# Altium footprint library Own_lib.PcbLib: 62 footprints (part 3 of 4)
Each footprint in its own frame and in the unit in brackets; x right, y up, seen from the top. Pads: shape width x height; smd on the part's side, far side on the other; paste and mask are expansions set on the pad; w line width, h text height; cw(c..) or ccw(c..) is an arc to the next point about the centre after c.
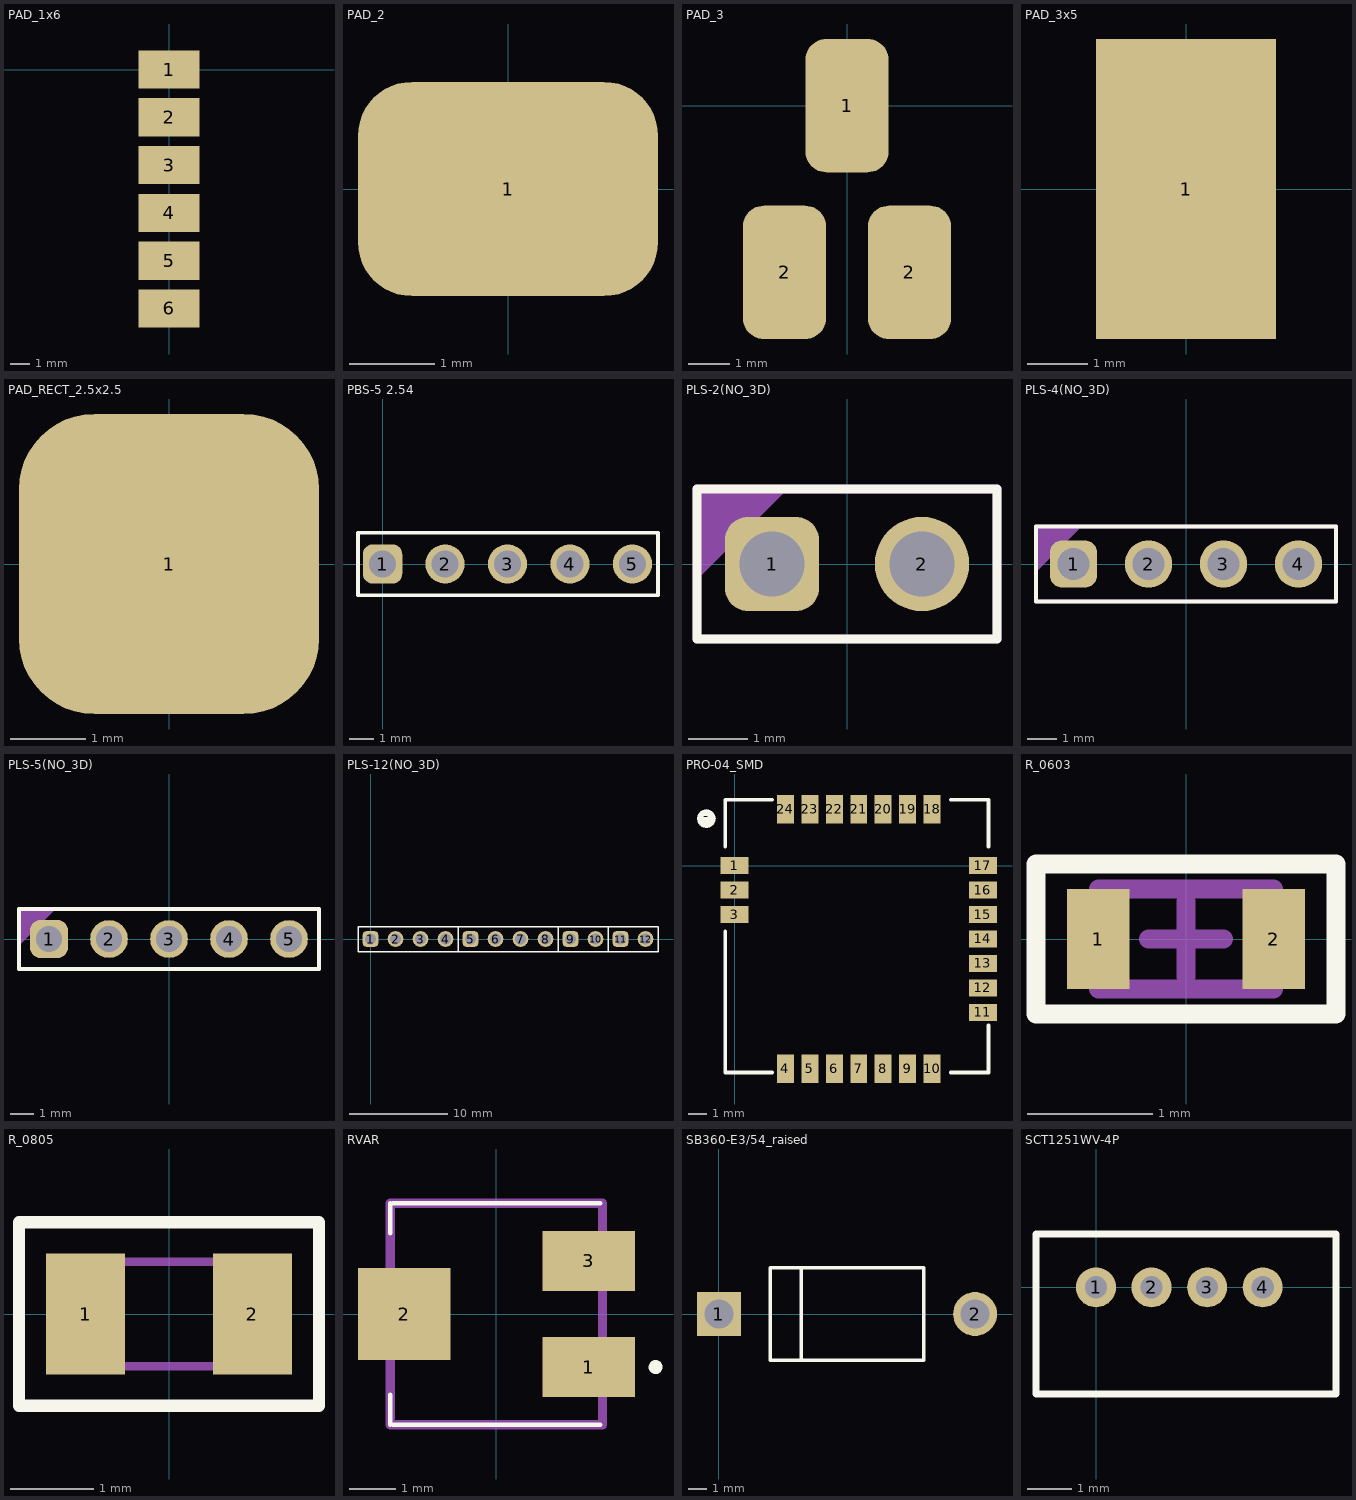
[diagram p2: the footprints below, top view; thin cyan lines are the x and y axes]

## PAD_1x6 [mm]
pads (6):
  rect 3.2x2 smd paste+0 mask+0.102: 1(0,0) 2(0,-2.5) 3(0,-5) 4(0,-7.5) 5(0,-10) 6(0,-12.5)

## PAD_2 [mm]
pads (1):
  rrect50% 3.5x2.5 smd paste+0 mask+0.102: 1(0,0)

## PAD_3 [mm]
pads (3):
  rrect50% 2x3.2 smd paste+0 mask+0.102: 1(0,0) 2(-1.5,-4) 2(1.5,-4)

## PAD_3x5 [mm]
pads (1):
  rect 3x5 smd paste+0 mask+0.102: 1(0,0)

## PAD_RECT_2.5x2.5 [mm]
pads (1):
  rrect50% 4x4 smd paste+0 mask+0.102: 1(0,0)

## PBS-5 2.54 [mm]
pads (5):
  rrect50% 1.6x1.6 hole 1.1: 1(0,0)
  round 1.6 hole 1.1: 2(2.54,0) 3(5.08,0) 4(7.62,0) 5(10.16,0)
Top Overlay:
  lines w0.15: -1,-1.27 -1,1.27 11.2,1.27 11.2,-1.27 -1,-1.27
3D body: height 4.3, standoff 0, extent -0.999,-1.269 11.2,1.269

## PLS-2(NO_3D) [mm]
pads (2):
  rrect50% 1.6x1.6 hole 1.1: 1(-1.27,0)
  round 1.6 hole 1.1: 2(1.27,0)
Top Overlay:
  lines w0.15: -2.54,-1.27 2.54,-1.27 2.54,1.27 -2.54,1.27 -2.54,-1.27
Mechanical 29:
  region: -2.54,1.27 -1.016,1.27 -2.54,-0.254
  lines w0.15: -2.54,-1.27 -2.54,1.27 2.54,1.27 2.54,-1.27 -2.54,-1.27
  text ".Designator" at -1.5,-0.8 h1

## PLS-4(NO_3D) [mm]
pads (4):
  rrect50% 1.6x1.6 hole 1.1: 1(-3.81,0)
  round 1.6 hole 1.1: 2(-1.27,0) 3(1.27,0) 4(3.81,0)
Top Overlay:
  lines w0.15: -5.08,-1.27 5.08,-1.27 5.08,1.27 -5.08,1.27 -5.08,-1.27
Mechanical 29:
  region: -5.08,1.27 -3.556,1.27 -5.08,-0.254
  lines w0.15: -5.08,-1.27 -5.08,1.27 5.08,1.27 5.08,-1.27 -5.08,-1.27
  text ".Designator" at -3.5,-0.8 h1

## PLS-5(NO_3D) [mm]
pads (5):
  rrect50% 1.6x1.6 hole 1.1: 1(-5.08,0)
  round 1.6 hole 1.1: 2(-2.54,0) 3(0,0) 4(2.54,0) 5(5.08,0)
Top Overlay:
  lines w0.15: -6.35,-1.27 6.35,-1.27 6.35,1.27 -6.35,1.27 -6.35,-1.27
Mechanical 29:
  region: -6.35,1.27 -4.826,1.27 -6.35,-0.254
  lines w0.15: -6.35,-1.27 -6.35,1.27 6.35,1.27 6.35,-1.27 -6.35,-1.27
  text ".Designator" at -3.5,-0.3 h1

## PLS-12(NO_3D) [mm]
pads (12):
  rrect50% 1.6x1.6 hole 1.1: 1(0,0) 5(10.16,0) 9(20.32,0) 11(25.4,0)
  round 1.6 hole 1.1: 2(2.54,0) 3(5.08,0) 4(7.62,0) 6(12.7,0) 7(15.24,0) 8(17.78,0) 10(22.86,0) 12(27.94,0)
Top Overlay:
  lines w0.15: 8.89,-1.27 8.89,1.27 ; 19.05,-1.27 19.05,1.27 ; 24.13,-1.27 24.13,1.27 ; -1.27,-1.27 29.21,-1.27 29.21,1.27 -1.27,1.27 -1.27,-1.27

## PRO-04_SMD [mm]
pads (25):
  rect 1.5x0.9 smd: 1(0,0) 2(0,-1.3) 3(0,-2.6) 11(13.2,-7.8) 12(13.2,-6.5) 13(13.2,-5.2) 14(13.2,-3.9) 15(13.2,-2.6) 16(13.2,-1.3) 17(13.2,0)
  rect 0.9x1.5 smd: 4(2.7,-10.8) 5(4,-10.8) 6(5.3,-10.8) 7(6.6,-10.8) 8(7.9,-10.8) 9(9.2,-10.8) 10(10.5,-10.8) 18(10.5,3) 19(9.2,3) 20(7.9,3) 21(6.6,3) 22(5.3,3) 23(4,3) 24(2.7,3)
  round 1 on Top Overlay: -(-1.5,2.5)
Top Overlay:
  lines w0.2: -0.5,-3.5 -0.5,-11 2,-11 ; -0.5,1 -0.5,3.5 2,3.5 ; 11.5,-11 13.5,-11 13.5,-8.5 ; 11.5,3.5 13.5,3.5 13.5,1
3D body: height 1.8, standoff 0, extent -0.5,-11 13.5,3.5

## R_0603 [mm]
pads (2):
  rect 0.5x0.8 smd: 1(-0.7,0) 2(0.7,0)
Top Overlay:
  lines w0.15: -1.2,-0.6 -1.2,0.6 -1,0.6 1,0.6 1.2,0.6 1.2,-0.6 1,-0.6 -1,-0.6 -1.2,-0.6
Top 3D Body:
  lines w0.15: -0.3,0 0.3,0 ; 0,-0.3 0,0.3 ; -0.7,-0.4 -0.7,0.4 0.7,0.4 0.7,-0.4 -0.7,-0.4
3D body: height 0.45, standoff 0, extent -0.5,-0.41 0.5,0.41
3D body: height 0.45, standoff 0, extent 0.5,-0.41 0.7,0.41
3D body: height 0.45, standoff 0, extent -0.7,-0.41 -0.5,0.41

## R_0805 [mm]
pads (2):
  rect 0.95x1.45 smd: 1(-1,0) 2(1,0)
Top Overlay:
  lines w0.15: -1.8,-1.1 -1.8,1.1 1.8,1.1 1.8,-1.1 -1.8,-1.1
Mechanical 13:
  lines w0.1: -1.025,-0.625 -1.025,0.625 1.025,0.625 1.025,-0.625 -1.025,-0.625
3D body "CRCW08051R20JNEA.stp": height 0.5, standoff 0, extent -1.025,-0.625 1.025,0.625

## RVAR [mm]
pads (3):
  rect 2x1.3 smd: 1(2,-1.15) 3(2,1.15)
  rect 2x2 smd: 2(-2,0)
Top Overlay:
  lines w0.1: -2.3,-2.4 -2.3,-1.75 -2.3,-2.4 ; -2.3,1.75 -2.3,2.4 -2.3,1.75 ; -2.25,-2.4 2.25,-2.4 -2.25,-2.4 ; -2.25,2.4 2.25,2.4 -2.25,2.4
  lines w0.2: 3.4,-1.15 ccw(c3.45,-1.135) 3.5,-1.15 ; 3.4,-1.15 cw(c3.45,-1.15) 3.5,-1.15 ; 3.4,-1.15 ccw(c3.45,-1.15) 3.5,-1.15
Mechanical 13:
  lines w0.2: -2.3,-2.4 -2.3,2.4 2.3,2.4 2.3,-2.4 -2.3,-2.4
3D body "3224J-1-101E.stp": height 3.81, standoff 0, extent -2.8,-2.4 2.87,2.4

## SB360-E3/54_raised [mm]
pads (2):
  rect 2.4x2.4 hole 1.6: 1(0,0)
  round 2.4 hole 1.6: 2(14,0)
Top Overlay:
  lines w0.2: 4.5,-2.525 4.5,2.525 ; 2.8,-2.525 2.8,2.525 11.2,2.525 11.2,-2.525 2.8,-2.525
3D body: height 8.9, standoff 3.9, extent 2.8,-2.5 11.2,2.5
3D body: height 5.3, standoff 0, extent -0.8,-0.8 0.8,0.8
3D body: height 5.3, standoff 0, extent 13.2,-0.8 14.8,0.8
3D body: height 6.1, standoff 4.5, extent -0.8,-0.8 2.8,0.8
3D body: height 6.1, standoff 4.5, extent 11.2,-0.8 14.8,0.8

## SCT1251WV-4P [mm]
pads (4):
  round 0.9 hole 0.5: 1(0,0) 2(1.25,0) 3(2.5,0) 4(3.75,0)
Top Overlay:
  lines w0.15: -1.35,-2.4 -1.35,1.2 5.4,1.2 5.4,-2.4 -1.35,-2.4
3D body: height 4.8, standoff 0, extent -1.35,-2.4 5.4,1.2